# Altium integrated library Diodes - TVS.IntLib: 5379 symbols (part 26 of 122)
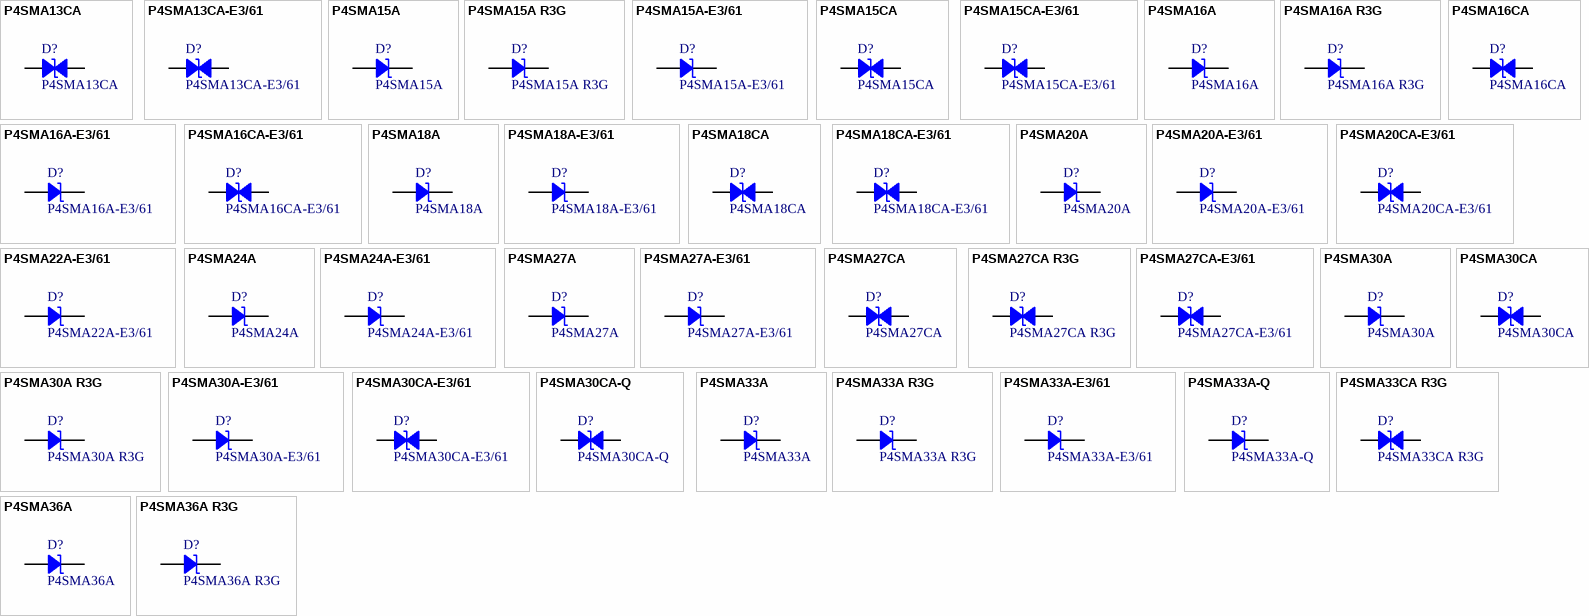
[diagram p159: symbols P4SMA13CA to P4SMA36A R3G]

## P4SMA27CA
designator D?
TVS DIODE 23.1V 37.5V DO214AC; Manufacturer: Littelfuse Inc.; Bidirectional Channels: 1; Current - Peak Pulse (10/1000µs): 10.9A; Power Line Protection: No; Power - Peak Pulse: 400W; Type: Zener; Voltage - Breakdown (Min): 25.7V; Part Number: P4SMA27CA; Applications: General Purpose; ComponentLink1Description: Datasheet; ComponentLink1URL: https://www.littelfuse.com/~/media/electronics/datasheets/tvs_diodes/littelfuse_tvs_diode_p4sma_datasheet.pdf.pdf; ComponentLink2Description: DigiKey Link; ComponentLink2URL: http://digikey.com/product-detail/en/littelfuse-inc/P4SMA27CA/P4SMA27CACT-ND/9841925; LastUpdated: 9/2/2020 1:27:51 AM; Lifecycle Status: Active; Minimum Order: 1; Mounting Type: Surface Mount; Operating Temperature: -65°C ~ 150°C (TJ); Package / Case: DO-214AC, SMA; Packaging: TapeAndReel; PartId: 7358; Part Status: Active; Price: 0.14; Series: P4SMA; Supplier 1: DigiKey; Supplier Part Number 1: P4SMA27CACT-ND; Supplier Device Package: DO-214AC (SMA); Voltage - Clamping (Max) @ Ipp: 37.5V; Voltage - Reverse Standoff (Typ): 23.1V
footprint DO214AC SMA
pins: 1, 2

## P4SMA27CA R3G
designator D?
TVS DIODE 23.1V 37.5V DO214AC; Manufacturer: Taiwan Semiconductor Corporation; Bidirectional Channels: 1; Current - Peak Pulse (10/1000µs): 11A; Power Line Protection: No; Power - Peak Pulse: 400W; Type: Zener; Voltage - Breakdown (Min): 25.65V; Part Number: P4SMA27CA R3G; Applications: General Purpose; ComponentLink1Description: Datasheet; ComponentLink1URL: https://www.taiwansemi.com/products/datasheet/P4SMA%20SERIES_Q1705.pdf; ComponentLink2Description: DigiKey Link; ComponentLink2URL: http://digikey.com/product-detail/en/taiwan-semiconductor-corporation/P4SMA27CA-R3G/P4SMA27CAR3GCT-ND/7357913; LastUpdated: 9/2/2020 1:27:50 AM; Lifecycle Status: Active; Minimum Order: 1; Mounting Type: Surface Mount; Operating Temperature: -55°C ~ 150°C (TJ); Package / Case: DO-214AC, SMA; Packaging: TapeAndReel; PartId: 7282; Part Status: Active; Price: 0.11; Series: P4SMA; Supplier 1: DigiKey; Supplier Part Number 1: P4SMA27CAR3GCT-ND; Supplier Device Package: DO-214AC (SMA); Voltage - Clamping (Max) @ Ipp: 37.5V; Voltage - Reverse Standoff (Typ): 23.1V
footprint DO214AC SMA
pins: 1, 2

## P4SMA27CA-E3/61
designator D?
TVS DIODE 23.1V 37.5V DO214AC; Manufacturer: Vishay Semiconductor Diodes Division; Bidirectional Channels: 1; Current - Peak Pulse (10/1000µs): 10.7A; Power Line Protection: No; Power - Peak Pulse: 400W; Type: Zener; Voltage - Breakdown (Min): 25.7V; Part Number: P4SMA27CA-E3/61; Applications: General Purpose; ComponentLink1Description: Datasheet; ComponentLink1URL: http://www.vishay.com/docs/88367/p4sma.pdf; ComponentLink2Description: DigiKey Link; ComponentLink2URL: http://digikey.com/product-detail/en/vishay-semiconductor-diodes-division/P4SMA27CA-E3-61/P4SMA27CA-E3-61GICT-ND/5639046; LastUpdated: 9/2/2020 1:27:53 AM; Lifecycle Status: Active; Minimum Order: 1; Mounting Type: Surface Mount; Operating Temperature: -65°C ~ 150°C (TJ); Package / Case: DO-214AC, SMA; Packaging: TapeAndReel; PartId: 7591; Part Status: Active; Price: 0.11; Series: P4SMA, TransZorb®; Supplier 1: DigiKey; Supplier Part Number 1: P4SMA27CA-E3/61GICT-ND; Supplier Device Package: DO-214AC (SMA); Voltage - Clamping (Max) @ Ipp: 37.5V; Voltage - Reverse Standoff (Typ): 23.1V
footprint DO214AC SMA
pins: 1, 2

## P4SMA30A
designator D?
TVS DIODE 25.6V 41.4V DO214AC; Manufacturer: Littelfuse Inc.; Current - Peak Pulse (10/1000µs): 9.9A; Power Line Protection: No; Power - Peak Pulse: 400W; Type: Zener; Unidirectional Channels: 1; Voltage - Breakdown (Min): 28.5V; Part Number: P4SMA30A; Applications: General Purpose; ComponentLink1Description: Datasheet; ComponentLink1URL: https://www.littelfuse.com/~/media/electronics/datasheets/tvs_diodes/littelfuse_tvs_diode_p4sma_datasheet.pdf.pdf; ComponentLink2Description: DigiKey Link; ComponentLink2URL: http://digikey.com/product-detail/en/littelfuse-inc/P4SMA30A/18-P4SMA30ACT-ND/10492197; LastUpdated: 9/2/2020 1:20:16 AM; Lifecycle Status: Active; Minimum Order: 1; Mounting Type: Surface Mount; Operating Temperature: -65°C ~ 150°C (TJ); Package / Case: DO-214AC, SMA; Packaging: TapeAndReel; PartId: 5905; Part Status: Active; Price: 0.13; Series: P4SMA; Supplier 1: DigiKey; Supplier Part Number 1: 18-P4SMA30ACT-ND; Supplier Device Package: DO-214AC (SMA); Voltage - Clamping (Max) @ Ipp: 41.4V; Voltage - Reverse Standoff (Typ): 25.6V
footprint DO214AC SMA
pins: 1, 2

## P4SMA30A R3G
designator D?
TVS DIODE 25.6V 41.4V DO214AC; Manufacturer: Taiwan Semiconductor Corporation; Current - Peak Pulse (10/1000µs): 10A; Power Line Protection: No; Power - Peak Pulse: 400W; Type: Zener; Unidirectional Channels: 1; Voltage - Breakdown (Min): 28.5V; Part Number: P4SMA30A R3G; Applications: General Purpose; ComponentLink1Description: Datasheet; ComponentLink1URL: https://www.taiwansemi.com/products/datasheet/P4SMA%20SERIES_Q1705.pdf; ComponentLink2Description: DigiKey Link; ComponentLink2URL: http://digikey.com/product-detail/en/taiwan-semiconductor-corporation/P4SMA30A-R3G/P4SMA30AR3GCT-ND/7357916; LastUpdated: 9/2/2020 1:20:16 AM; Lifecycle Status: Active; Minimum Order: 1; Mounting Type: Surface Mount; Operating Temperature: -55°C ~ 150°C (TJ); Package / Case: DO-214AC, SMA; Packaging: TapeAndReel; PartId: 5929; Part Status: Active; Price: 0.11; Series: P4SMA; Supplier 1: DigiKey; Supplier Part Number 1: P4SMA30AR3GCT-ND; Supplier Device Package: DO-214AC (SMA); Voltage - Clamping (Max) @ Ipp: 41.4V; Voltage - Reverse Standoff (Typ): 25.6V
footprint DO214AC SMA
pins: 1, 2

## P4SMA30A-E3/61
designator D?
TVS DIODE 25.6V 41.4V DO214AC; Manufacturer: Vishay Semiconductor Diodes Division; Current - Peak Pulse (10/1000µs): 9.7A; Power Line Protection: No; Power - Peak Pulse: 400W; Type: Zener; Unidirectional Channels: 1; Voltage - Breakdown (Min): 28.5V; Part Number: P4SMA30A-E3/61; Applications: General Purpose; ComponentLink1Description: Datasheet; ComponentLink1URL: http://www.vishay.com/docs/88367/p4sma.pdf; ComponentLink2Description: DigiKey Link; ComponentLink2URL: http://digikey.com/product-detail/en/vishay-semiconductor-diodes-division/P4SMA30A-E3-61/P4SMA30A-E3-61GICT-ND/5639048; LastUpdated: 9/2/2020 1:20:13 AM; Lifecycle Status: Active; Minimum Order: 1; Mounting Type: Surface Mount; Operating Temperature: -65°C ~ 150°C (TJ); Package / Case: DO-214AC, SMA; Packaging: TapeAndReel; PartId: 5597; Part Status: Active; Price: 0.10; Series: P4SMA, TransZorb®; Supplier 1: DigiKey; Supplier Part Number 1: P4SMA30A-E3/61GICT-ND; Supplier Device Package: DO-214AC (SMA); Voltage - Clamping (Max) @ Ipp: 41.4V; Voltage - Reverse Standoff (Typ): 25.6V
footprint DO214AC SMA
pins: 1, 2

## P4SMA30CA
designator D?
TVS DIODE 25.6V 41.4V DO214AC; Manufacturer: Bourns Inc.; Bidirectional Channels: 1; Current - Peak Pulse (10/1000µs): 9.9A; Power Line Protection: No; Power - Peak Pulse: 400W; Type: Zener; Voltage - Breakdown (Min): 28.5V; Part Number: P4SMA30CA; Applications: General Purpose; ComponentLink1Description: Datasheet; ComponentLink1URL: https://www.bourns.com/docs/Product-Datasheets/P4SMA.pdf; ComponentLink2Description: DigiKey Link; ComponentLink2URL: http://digikey.com/product-detail/en/bourns-inc/P4SMA30CA/118-P4SMA30CACT-ND/10668346; LastUpdated: 9/2/2020 1:27:51 AM; Lifecycle Status: Active; Minimum Order: 1; Mounting Type: Surface Mount; Operating Temperature: -55°C ~ 150°C (TJ); Package / Case: DO-214AC, SMA; Packaging: TapeAndReel; PartId: 7333; Part Status: Active; Price: 0.09; Series: -; Supplier 1: DigiKey; Supplier Part Number 1: 118-P4SMA30CACT-ND; Supplier Device Package: DO-214AC (SMA); Voltage - Clamping (Max) @ Ipp: 41.4V; Voltage - Reverse Standoff (Typ): 25.6V
footprint DO214AC SMA
pins: 1, 2

## P4SMA30CA-E3/61
designator D?
TVS DIODE 25.6V 41.4V DO214AC; Manufacturer: Vishay Semiconductor Diodes Division; Bidirectional Channels: 1; Current - Peak Pulse (10/1000µs): 9.7A; Power Line Protection: No; Power - Peak Pulse: 400W; Type: Zener; Voltage - Breakdown (Min): 28.5V; Part Number: P4SMA30CA-E3/61; Applications: General Purpose; ComponentLink1Description: Datasheet; ComponentLink1URL: http://www.vishay.com/docs/88367/p4sma.pdf; ComponentLink2Description: DigiKey Link; ComponentLink2URL: http://digikey.com/product-detail/en/vishay-semiconductor-diodes-division/P4SMA30CA-E3-61/P4SMA30CA-E3-61GICT-ND/3847608; LastUpdated: 9/2/2020 1:27:50 AM; Lifecycle Status: Active; Minimum Order: 1; Mounting Type: Surface Mount; Operating Temperature: -65°C ~ 150°C (TJ); Package / Case: DO-214AC, SMA; Packaging: TapeAndReel; PartId: 7292; Part Status: Active; Price: 0.10; Series: P4SMA, TransZorb®; Supplier 1: DigiKey; Supplier Part Number 1: P4SMA30CA-E3/61GICT-ND; Supplier Device Package: DO-214AC (SMA); Voltage - Clamping (Max) @ Ipp: 41.4V; Voltage - Reverse Standoff (Typ): 25.6V
footprint DO214AC SMA
pins: 1, 2

## P4SMA30CA-Q
designator D?
TVS DIODE; Manufacturer: Bourns Inc.; Bidirectional Channels: 1; Current - Peak Pulse (10/1000µs): 9.9A; Power Line Protection: No; Power - Peak Pulse: 400W; Type: Zener; Voltage - Breakdown (Min): 28.5V; Voltage - Clamping (Max) @ Ipp: 41.4V; Voltage - Reverse Standoff (Typ): 25.6V; Part Number: P4SMA30CA-Q; Applications: Automotive, Telecom; ComponentLink1Description: Datasheet; ComponentLink1URL: https://www.bourns.com/docs/Product-Datasheets/P4SMA-Q.pdf; ComponentLink2Description: DigiKey Link; ComponentLink2URL: http://digikey.com/product-detail/en/bourns-inc/P4SMA30CA-Q/118-P4SMA30CA-QCT-ND/10297104; LastUpdated: 9/2/2020 1:27:53 AM; Lifecycle Status: Active; Minimum Order: 1; Mounting Type: Surface Mount; Operating Temperature: -55°C ~ 150°C (TJ); Package / Case: DO-214AC, SMA; Packaging: TapeAndReel; PartId: 7609; Part Status: Active; Price: 0.11; Series: Automotive, AEC-Q101, P4SMA; Supplier 1: DigiKey; Supplier Part Number 1: 118-P4SMA30CA-QCT-ND; Supplier Device Package: DO-214AC (SMA)
footprint DO214AC SMA
pins: 1, 2

## P4SMA33A
designator D?
TVS DIODE 28.2V 45.7V DO214AC; Manufacturer: Bourns Inc.; Current - Peak Pulse (10/1000µs): 9A; Power Line Protection: No; Power - Peak Pulse: 400W; Type: Zener; Unidirectional Channels: 1; Voltage - Breakdown (Min): 31.4V; Part Number: P4SMA33A; Applications: General Purpose; ComponentLink1Description: Datasheet; ComponentLink1URL: https://www.bourns.com/docs/Product-Datasheets/P4SMA.pdf; ComponentLink2Description: DigiKey Link; ComponentLink2URL: http://digikey.com/product-detail/en/bourns-inc/P4SMA33A/P4SMA33ABBCT-ND/6708212; LastUpdated: 9/2/2020 1:20:15 AM; Lifecycle Status: Active; Minimum Order: 1; Mounting Type: Surface Mount; Operating Temperature: -55°C ~ 150°C (TJ); Package / Case: DO-214AC, SMA; Packaging: TapeAndReel; PartId: 5828; Part Status: Active; Price: 0.09; Series: -; Supplier 1: DigiKey; Supplier Part Number 1: P4SMA33ABBCT-ND; Supplier Device Package: DO-214AC (SMA); Voltage - Clamping (Max) @ Ipp: 45.7V; Voltage - Reverse Standoff (Typ): 28.2V
footprint DO214AC SMA
pins: 1, 2

## P4SMA33A R3G
designator D?
TVS DIODE 28.2V 45.7V DO214AC; Manufacturer: Taiwan Semiconductor Corporation; Current - Peak Pulse (10/1000µs): 9A; Power Line Protection: No; Power - Peak Pulse: 400W; Type: Zener; Unidirectional Channels: 1; Voltage - Breakdown (Min): 31.35V; Part Number: P4SMA33A R3G; Applications: General Purpose; ComponentLink1Description: Datasheet; ComponentLink1URL: https://www.taiwansemi.com/products/datasheet/P4SMA%20SERIES_Q1705.pdf; ComponentLink2Description: DigiKey Link; ComponentLink2URL: http://digikey.com/product-detail/en/taiwan-semiconductor-corporation/P4SMA33A-R3G/P4SMA33AR3GCT-ND/7357919; LastUpdated: 9/2/2020 1:20:17 AM; Lifecycle Status: Active; Minimum Order: 1; Mounting Type: Surface Mount; Operating Temperature: -55°C ~ 150°C (TJ); Package / Case: DO-214AC, SMA; Packaging: TapeAndReel; PartId: 6093; Part Status: Active; Price: 0.11; Series: P4SMA; Supplier 1: DigiKey; Supplier Part Number 1: P4SMA33AR3GCT-ND; Supplier Device Package: DO-214AC (SMA); Voltage - Clamping (Max) @ Ipp: 45.7V; Voltage - Reverse Standoff (Typ): 28.2V
footprint DO214AC SMA
pins: 1, 2

## P4SMA33A-E3/61
designator D?
TVS DIODE 28.2V 45.7V DO214AC; Manufacturer: Vishay Semiconductor Diodes Division; Current - Peak Pulse (10/1000µs): 8.8A; Power Line Protection: No; Power - Peak Pulse: 400W; Type: Zener; Unidirectional Channels: 1; Voltage - Breakdown (Min): 31.4V; Part Number: P4SMA33A-E3/61; Applications: General Purpose; ComponentLink1Description: Datasheet; ComponentLink1URL: http://www.vishay.com/docs/88367/p4sma.pdf; ComponentLink2Description: DigiKey Link; ComponentLink2URL: http://digikey.com/product-detail/en/vishay-semiconductor-diodes-division/P4SMA33A-E3-61/P4SMA33A-E3-61GICT-ND/5639049; LastUpdated: 9/2/2020 1:20:16 AM; Lifecycle Status: Active; Minimum Order: 1; Mounting Type: Surface Mount; Operating Temperature: -65°C ~ 150°C (TJ); Package / Case: DO-214AC, SMA; Packaging: TapeAndReel; PartId: 5934; Part Status: Active; Price: 0.10; Series: P4SMA, TransZorb®; Supplier 1: DigiKey; Supplier Part Number 1: P4SMA33A-E3/61GICT-ND; Supplier Device Package: DO-214AC (SMA); Voltage - Clamping (Max) @ Ipp: 45.7V; Voltage - Reverse Standoff (Typ): 28.2V
footprint DO214AC SMA
pins: 1, 2

## P4SMA33A-Q
designator D?
TVS DIODE; Manufacturer: Bourns Inc.; Current - Peak Pulse (10/1000µs): 9A; Power Line Protection: No; Power - Peak Pulse: 400W; Type: Zener; Unidirectional Channels: 1; Voltage - Breakdown (Min): 31.4V; Voltage - Clamping (Max) @ Ipp: 45.7V; Voltage - Reverse Standoff (Typ): 28.2V; Part Number: P4SMA33A-Q; Applications: Automotive, Telecom; ComponentLink1Description: Datasheet; ComponentLink1URL: https://www.bourns.com/docs/Product-Datasheets/P4SMA-Q.pdf; ComponentLink2Description: DigiKey Link; ComponentLink2URL: http://digikey.com/product-detail/en/bourns-inc/P4SMA33A-Q/118-P4SMA33A-QCT-ND/10297103; LastUpdated: 9/2/2020 1:20:13 AM; Lifecycle Status: Active; Minimum Order: 1; Mounting Type: Surface Mount; Operating Temperature: -55°C ~ 150°C (TJ); Package / Case: DO-214AC, SMA; Packaging: TapeAndReel; PartId: 5632; Part Status: Active; Price: 0.10; Series: Automotive, AEC-Q101, P4SMA; Supplier 1: DigiKey; Supplier Part Number 1: 118-P4SMA33A-QCT-ND; Supplier Device Package: DO-214AC (SMA)
footprint DO214AC SMA
pins: 1, 2

## P4SMA33CA R3G
designator D?
TVS DIODE 28.2V 45.7V DO214AC; Manufacturer: Taiwan Semiconductor Corporation; Bidirectional Channels: 1; Current - Peak Pulse (10/1000µs): 9A; Power Line Protection: No; Power - Peak Pulse: 400W; Type: Zener; Voltage - Breakdown (Min): 31.35V; Part Number: P4SMA33CA R3G; Applications: General Purpose; ComponentLink1Description: Datasheet; ComponentLink1URL: https://www.taiwansemi.com/products/datasheet/P4SMA%20SERIES_Q1705.pdf; ComponentLink2Description: DigiKey Link; ComponentLink2URL: http://digikey.com/product-detail/en/taiwan-semiconductor-corporation/P4SMA33CA-R3G/P4SMA33CAR3GCT-ND/7357922; LastUpdated: 9/2/2020 1:27:53 AM; Lifecycle Status: Active; Minimum Order: 1; Mounting Type: Surface Mount; Operating Temperature: -55°C ~ 150°C (TJ); Package / Case: DO-214AC, SMA; Packaging: TapeAndReel; PartId: 7581; Part Status: Active; Price: 0.11; Series: P4SMA; Supplier 1: DigiKey; Supplier Part Number 1: P4SMA33CAR3GCT-ND; Supplier Device Package: DO-214AC (SMA); Voltage - Clamping (Max) @ Ipp: 45.7V; Voltage - Reverse Standoff (Typ): 28.2V
footprint DO214AC SMA
pins: 1, 2

## P4SMA36A
designator D?
TVS DIODE 30.8V 49.9V DO214AC; Manufacturer: Bourns Inc.; Current - Peak Pulse (10/1000µs): 8.2A; Power Line Protection: No; Power - Peak Pulse: 400W; Type: Zener; Unidirectional Channels: 1; Voltage - Breakdown (Min): 34.2V; Part Number: P4SMA36A; Applications: General Purpose; ComponentLink1Description: Datasheet; ComponentLink1URL: https://www.bourns.com/docs/Product-Datasheets/P4SMA.pdf; ComponentLink2Description: DigiKey Link; ComponentLink2URL: http://digikey.com/product-detail/en/bourns-inc/P4SMA36A/P4SMA36ABBCT-ND/6708214; LastUpdated: 9/2/2020 1:20:14 AM; Lifecycle Status: Active; Minimum Order: 1; Mounting Type: Surface Mount; Operating Temperature: -55°C ~ 150°C (TJ); Package / Case: DO-214AC, SMA; Packaging: TapeAndReel; PartId: 5663; Part Status: Active; Price: 0.09; Series: -; Supplier 1: DigiKey; Supplier Part Number 1: P4SMA36ABBCT-ND; Supplier Device Package: DO-214AC (SMA); Voltage - Clamping (Max) @ Ipp: 49.9V; Voltage - Reverse Standoff (Typ): 30.8V
footprint DO214AC SMA
pins: 1, 2

## P4SMA36A R3G
designator D?
TVS DIODE 30.8V 49.9V DO214AC; Manufacturer: Taiwan Semiconductor Corporation; Current - Peak Pulse (10/1000µs): 8.4A; Power Line Protection: No; Power - Peak Pulse: 400W; Type: Zener; Unidirectional Channels: 1; Voltage - Breakdown (Min): 34.2V; Part Number: P4SMA36A R3G; Applications: General Purpose; ComponentLink1Description: Datasheet; ComponentLink1URL: https://www.taiwansemi.com/products/datasheet/P4SMA%20SERIES_Q1705.pdf; ComponentLink2Description: DigiKey Link; ComponentLink2URL: http://digikey.com/product-detail/en/taiwan-semiconductor-corporation/P4SMA36A-R3G/P4SMA36AR3GCT-ND/7357925; LastUpdated: 9/2/2020 1:20:13 AM; Lifecycle Status: Active; Minimum Order: 1; Mounting Type: Surface Mount; Operating Temperature: -55°C ~ 150°C (TJ); Package / Case: DO-214AC, SMA; Packaging: TapeAndReel; PartId: 5587; Part Status: Active; Price: 0.11; Series: P4SMA; Supplier 1: DigiKey; Supplier Part Number 1: P4SMA36AR3GCT-ND; Supplier Device Package: DO-214AC (SMA); Voltage - Clamping (Max) @ Ipp: 49.9V; Voltage - Reverse Standoff (Typ): 30.8V
footprint DO214AC SMA
pins: 1, 2

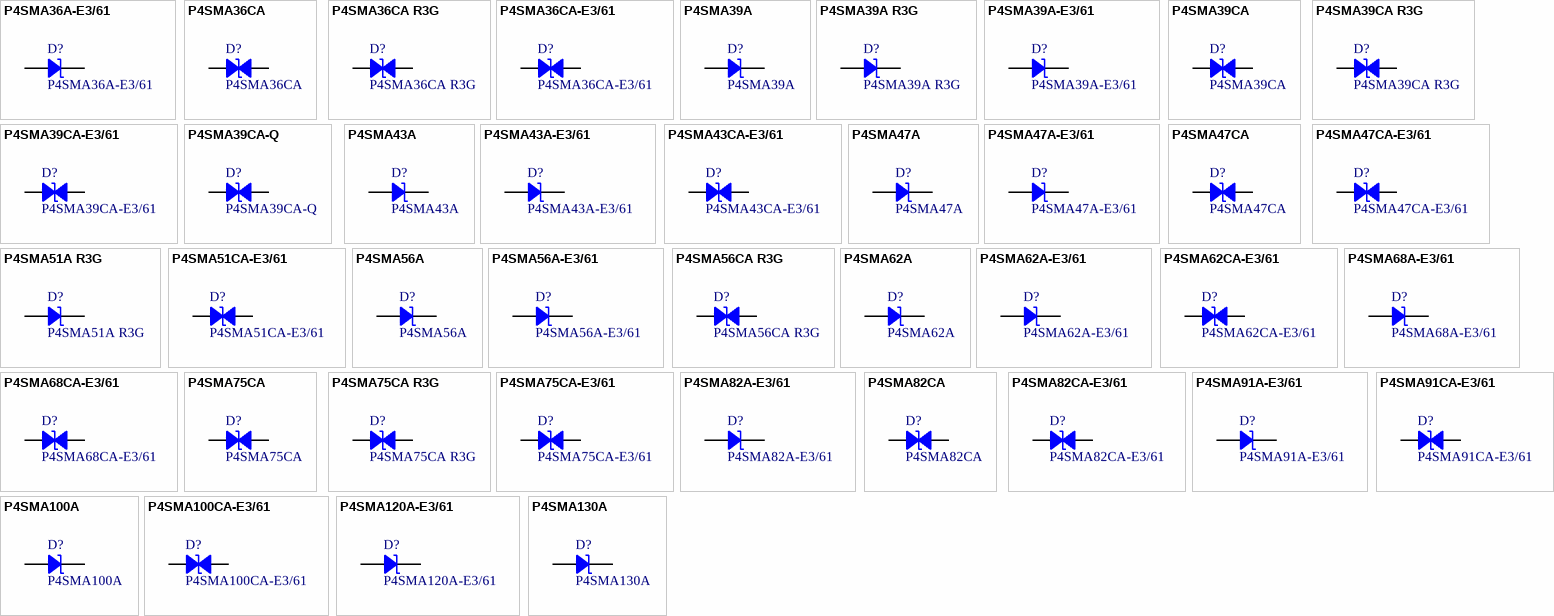
[diagram p28: symbols P4SMA36A-E3/61 to P4SMA130A]

## P4SMA36A-E3/61
designator D?
TVS DIODE 30.8V 49.9V DO214AC; Manufacturer: Vishay Semiconductor Diodes Division; Current - Peak Pulse (10/1000µs): 8A; Power Line Protection: No; Power - Peak Pulse: 400W; Type: Zener; Unidirectional Channels: 1; Voltage - Breakdown (Min): 34.2V; Part Number: P4SMA36A-E3/61; Applications: General Purpose; ComponentLink1Description: Datasheet; ComponentLink1URL: http://www.vishay.com/docs/88367/p4sma.pdf; ComponentLink2Description: DigiKey Link; ComponentLink2URL: http://digikey.com/product-detail/en/vishay-semiconductor-diodes-division/P4SMA36A-E3-61/P4SMA36A-E3-61GICT-ND/5639051; LastUpdated: 9/2/2020 1:20:13 AM; Lifecycle Status: Active; Minimum Order: 1; Mounting Type: Surface Mount; Operating Temperature: -65°C ~ 150°C (TJ); Package / Case: DO-214AC, SMA; Packaging: TapeAndReel; PartId: 5589; Part Status: Active; Price: 0.10; Series: P4SMA, TransZorb®; Supplier 1: DigiKey; Supplier Part Number 1: P4SMA36A-E3/61GICT-ND; Supplier Device Package: DO-214AC (SMA); Voltage - Clamping (Max) @ Ipp: 49.9V; Voltage - Reverse Standoff (Typ): 30.8V
footprint DO214AC SMA
pins: 1, 2

## P4SMA36CA
designator D?
TVS DIODE 30.8V 49.9V DO214AC; Manufacturer: Littelfuse Inc.; Bidirectional Channels: 1; Current - Peak Pulse (10/1000µs): 8.2A; Power Line Protection: No; Power - Peak Pulse: 400W; Type: Zener; Voltage - Breakdown (Min): 34.2V; Part Number: P4SMA36CA; Applications: General Purpose; ComponentLink1Description: Datasheet; ComponentLink1URL: https://www.littelfuse.com/~/media/electronics/datasheets/tvs_diodes/littelfuse_tvs_diode_p4sma_datasheet.pdf.pdf; ComponentLink2Description: DigiKey Link; ComponentLink2URL: http://digikey.com/product-detail/en/littelfuse-inc/P4SMA36CA/P4SMA36CACT-ND/9841926; LastUpdated: 9/2/2020 1:27:51 AM; Lifecycle Status: Active; Minimum Order: 1; Mounting Type: Surface Mount; Operating Temperature: -65°C ~ 150°C (TJ); Package / Case: DO-214AC, SMA; Packaging: TapeAndReel; PartId: 7359; Part Status: Active; Price: 0.14; Series: P4SMA; Supplier 1: DigiKey; Supplier Part Number 1: P4SMA36CACT-ND; Supplier Device Package: DO-214AC (SMA); Voltage - Clamping (Max) @ Ipp: 49.9V; Voltage - Reverse Standoff (Typ): 30.8V
footprint DO214AC SMA
pins: 1, 2

## P4SMA36CA R3G
designator D?
TVS DIODE 30.8V 49.9V DO214AC; Manufacturer: Taiwan Semiconductor Corporation; Bidirectional Channels: 1; Current - Peak Pulse (10/1000µs): 8.4A; Power Line Protection: No; Power - Peak Pulse: 400W; Type: Zener; Voltage - Breakdown (Min): 34.2V; Part Number: P4SMA36CA R3G; Applications: General Purpose; ComponentLink1Description: Datasheet; ComponentLink1URL: https://www.taiwansemi.com/products/datasheet/P4SMA%20SERIES_Q1705.pdf; ComponentLink2Description: DigiKey Link; ComponentLink2URL: http://digikey.com/product-detail/en/taiwan-semiconductor-corporation/P4SMA36CA-R3G/P4SMA36CAR3GCT-ND/7357928; LastUpdated: 9/2/2020 1:27:50 AM; Lifecycle Status: Active; Minimum Order: 1; Mounting Type: Surface Mount; Operating Temperature: -55°C ~ 150°C (TJ); Package / Case: DO-214AC, SMA; Packaging: TapeAndReel; PartId: 7281; Part Status: Active; Price: 0.11; Series: P4SMA; Supplier 1: DigiKey; Supplier Part Number 1: P4SMA36CAR3GCT-ND; Supplier Device Package: DO-214AC (SMA); Voltage - Clamping (Max) @ Ipp: 49.9V; Voltage - Reverse Standoff (Typ): 30.8V
footprint DO214AC SMA
pins: 1, 2

## P4SMA36CA-E3/61
designator D?
TVS DIODE 30.8V 49.9V DO214AC; Manufacturer: Vishay Semiconductor Diodes Division; Bidirectional Channels: 1; Current - Peak Pulse (10/1000µs): 8A; Power Line Protection: No; Power - Peak Pulse: 400W; Type: Zener; Voltage - Breakdown (Min): 34.2V; Part Number: P4SMA36CA-E3/61; Applications: General Purpose; ComponentLink1Description: Datasheet; ComponentLink1URL: http://www.vishay.com/docs/88367/p4sma.pdf; ComponentLink2Description: DigiKey Link; ComponentLink2URL: http://digikey.com/product-detail/en/vishay-semiconductor-diodes-division/P4SMA36CA-E3-61/P4SMA36CA-E3-61GICT-ND/5639052; LastUpdated: 9/2/2020 1:27:50 AM; Lifecycle Status: Active; Minimum Order: 1; Mounting Type: Surface Mount; Operating Temperature: -65°C ~ 150°C (TJ); Package / Case: DO-214AC, SMA; Packaging: TapeAndReel; PartId: 7290; Part Status: Active; Price: 0.11; Series: P4SMA, TransZorb®; Supplier 1: DigiKey; Supplier Part Number 1: P4SMA36CA-E3/61GICT-ND; Supplier Device Package: DO-214AC (SMA); Voltage - Clamping (Max) @ Ipp: 49.9V; Voltage - Reverse Standoff (Typ): 30.8V
footprint DO214AC SMA
pins: 1, 2

## P4SMA39A
designator D?
TVS DIODE 33.3V 53.9V DO214AC; Manufacturer: Bourns Inc.; Current - Peak Pulse (10/1000µs): 7.6A; Power Line Protection: No; Power - Peak Pulse: 400W; Type: Zener; Unidirectional Channels: 1; Voltage - Breakdown (Min): 37.1V; Part Number: P4SMA39A; Applications: General Purpose; ComponentLink1Description: Datasheet; ComponentLink1URL: https://www.bourns.com/docs/Product-Datasheets/P4SMA.pdf; ComponentLink2Description: DigiKey Link; ComponentLink2URL: http://digikey.com/product-detail/en/bourns-inc/P4SMA39A/P4SMA39ABBCT-ND/6708215; LastUpdated: 9/2/2020 1:20:18 AM; Lifecycle Status: Active; Minimum Order: 1; Mounting Type: Surface Mount; Operating Temperature: -55°C ~ 150°C (TJ); Package / Case: DO-214AC, SMA; Packaging: TapeAndReel; PartId: 6142; Part Status: Active; Price: 0.09; Series: -; Supplier 1: DigiKey; Supplier Part Number 1: P4SMA39ABBCT-ND; Supplier Device Package: DO-214AC (SMA); Voltage - Clamping (Max) @ Ipp: 53.9V; Voltage - Reverse Standoff (Typ): 33.3V
footprint DO214AC SMA
pins: 1, 2

## P4SMA39A R3G
designator D?
TVS DIODE 33.3V 53.9V DO214AC; Manufacturer: Taiwan Semiconductor Corporation; Current - Peak Pulse (10/1000µs): 7.7A; Power Line Protection: No; Power - Peak Pulse: 400W; Type: Zener; Unidirectional Channels: 1; Voltage - Breakdown (Min): 37.05V; Part Number: P4SMA39A R3G; Applications: General Purpose; ComponentLink1Description: Datasheet; ComponentLink1URL: https://www.taiwansemi.com/products/datasheet/P4SMA%20SERIES_Q1705.pdf; ComponentLink2Description: DigiKey Link; ComponentLink2URL: http://digikey.com/product-detail/en/taiwan-semiconductor-corporation/P4SMA39A-R3G/P4SMA39AR3GCT-ND/7357931; LastUpdated: 9/2/2020 1:20:16 AM; Lifecycle Status: Active; Minimum Order: 1; Mounting Type: Surface Mount; Operating Temperature: -55°C ~ 150°C (TJ); Package / Case: DO-214AC, SMA; Packaging: TapeAndReel; PartId: 5932; Part Status: Active; Price: 0.11; Series: P4SMA; Supplier 1: DigiKey; Supplier Part Number 1: P4SMA39AR3GCT-ND; Supplier Device Package: DO-214AC (SMA); Voltage - Clamping (Max) @ Ipp: 53.9V; Voltage - Reverse Standoff (Typ): 33.3V
footprint DO214AC SMA
pins: 1, 2

## P4SMA39A-E3/61
designator D?
TVS DIODE 33.3V 53.9V DO214AC; Manufacturer: Vishay Semiconductor Diodes Division; Current - Peak Pulse (10/1000µs): 7.4A; Power Line Protection: No; Power - Peak Pulse: 400W; Type: Zener; Unidirectional Channels: 1; Voltage - Breakdown (Min): 37.1V; Part Number: P4SMA39A-E3/61; Applications: General Purpose; ComponentLink1Description: Datasheet; ComponentLink1URL: http://www.vishay.com/docs/88367/p4sma.pdf; ComponentLink2Description: DigiKey Link; ComponentLink2URL: http://digikey.com/product-detail/en/vishay-semiconductor-diodes-division/P4SMA39A-E3-61/P4SMA39A-E3-61GICT-ND/5639053; LastUpdated: 9/2/2020 1:20:14 AM; Lifecycle Status: Active; Minimum Order: 1; Mounting Type: Surface Mount; Operating Temperature: -65°C ~ 150°C (TJ); Package / Case: DO-214AC, SMA; Packaging: TapeAndReel; PartId: 5681; Part Status: Active; Price: 0.10; Series: P4SMA, TransZorb®; Supplier 1: DigiKey; Supplier Part Number 1: P4SMA39A-E3/61GICT-ND; Supplier Device Package: DO-214AC (SMA); Voltage - Clamping (Max) @ Ipp: 53.9V; Voltage - Reverse Standoff (Typ): 33.3V
footprint DO214AC SMA
pins: 1, 2

## P4SMA39CA
designator D?
TVS DIODE 33.3V 53.9V DO214AC; Manufacturer: Littelfuse Inc.; Bidirectional Channels: 1; Current - Peak Pulse (10/1000µs): 7.6A; Power Line Protection: No; Power - Peak Pulse: 400W; Type: Zener; Voltage - Breakdown (Min): 37.1V; Part Number: P4SMA39CA; Applications: General Purpose; ComponentLink1Description: Datasheet; ComponentLink1URL: https://www.littelfuse.com/~/media/electronics/datasheets/tvs_diodes/littelfuse_tvs_diode_p4sma_datasheet.pdf.pdf; ComponentLink2Description: DigiKey Link; ComponentLink2URL: http://digikey.com/product-detail/en/littelfuse-inc/P4SMA39CA/F5655CT-ND/3307037; LastUpdated: 9/2/2020 1:27:52 AM; Lifecycle Status: Active; Minimum Order: 1; Mounting Type: Surface Mount; Operating Temperature: -65°C ~ 150°C (TJ); Package / Case: DO-214AC, SMA; Packaging: TapeAndReel; PartId: 7485; Part Status: Active; Price: 0.14; Series: P4SMA; Supplier 1: DigiKey; Supplier Part Number 1: F5655CT-ND; Supplier Device Package: DO-214AC (SMA); Voltage - Clamping (Max) @ Ipp: 53.9V; Voltage - Reverse Standoff (Typ): 33.3V
footprint DO214AC SMA
pins: 1, 2

## P4SMA39CA R3G
designator D?
TVS DIODE 33.3V 53.9V DO214AC; Manufacturer: Taiwan Semiconductor Corporation; Bidirectional Channels: 1; Current - Peak Pulse (10/1000µs): 7.7A; Power Line Protection: No; Power - Peak Pulse: 400W; Type: Zener; Voltage - Breakdown (Min): 37.05V; Part Number: P4SMA39CA R3G; Applications: General Purpose; ComponentLink1Description: Datasheet; ComponentLink1URL: https://www.taiwansemi.com/products/datasheet/P4SMA%20SERIES_Q1705.pdf; ComponentLink2Description: DigiKey Link; ComponentLink2URL: http://digikey.com/product-detail/en/taiwan-semiconductor-corporation/P4SMA39CA-R3G/P4SMA39CAR3GCT-ND/7357934; LastUpdated: 9/2/2020 1:27:53 AM; Lifecycle Status: Active; Minimum Order: 1; Mounting Type: Surface Mount; Operating Temperature: -55°C ~ 150°C (TJ); Package / Case: DO-214AC, SMA; Packaging: TapeAndReel; PartId: 7580; Part Status: Active; Price: 0.11; Series: P4SMA; Supplier 1: DigiKey; Supplier Part Number 1: P4SMA39CAR3GCT-ND; Supplier Device Package: DO-214AC (SMA); Voltage - Clamping (Max) @ Ipp: 53.9V; Voltage - Reverse Standoff (Typ): 33.3V
footprint DO214AC SMA
pins: 1, 2

## P4SMA39CA-E3/61
designator D?
TVS DIODE 33.3V 53.9V DO214AC; Manufacturer: Vishay Semiconductor Diodes Division; Bidirectional Channels: 1; Current - Peak Pulse (10/1000µs): 7.4A; Power Line Protection: No; Power - Peak Pulse: 400W; Type: Zener; Voltage - Breakdown (Min): 37.1V; Part Number: P4SMA39CA-E3/61; Applications: General Purpose; ComponentLink1Description: Datasheet; ComponentLink1URL: http://www.vishay.com/docs/88367/p4sma.pdf; ComponentLink2Description: DigiKey Link; ComponentLink2URL: http://digikey.com/product-detail/en/vishay-semiconductor-diodes-division/P4SMA39CA-E3-61/P4SMA39CA-E3-61GICT-ND/5639054; LastUpdated: 9/2/2020 1:27:50 AM; Lifecycle Status: Active; Minimum Order: 1; Mounting Type: Surface Mount; Operating Temperature: -65°C ~ 150°C (TJ); Package / Case: DO-214AC, SMA; Packaging: TapeAndReel; PartId: 7288; Part Status: Active; Price: 0.11; Series: P4SMA, TransZorb®; Supplier 1: DigiKey; Supplier Part Number 1: P4SMA39CA-E3/61GICT-ND; Supplier Device Package: DO-214AC (SMA); Voltage - Clamping (Max) @ Ipp: 53.9V; Voltage - Reverse Standoff (Typ): 33.3V
footprint DO214AC SMA
pins: 1, 2

## P4SMA39CA-Q
designator D?
TVS DIODE; Manufacturer: Bourns Inc.; Bidirectional Channels: 1; Current - Peak Pulse (10/1000µs): 7.6A; Power Line Protection: No; Power - Peak Pulse: 400W; Type: Zener; Voltage - Breakdown (Min): 37.1V; Voltage - Clamping (Max) @ Ipp: 53.9V; Voltage - Reverse Standoff (Typ): 33.3V; Part Number: P4SMA39CA-Q; Applications: Automotive, Telecom; ComponentLink1Description: Datasheet; ComponentLink1URL: https://www.bourns.com/docs/Product-Datasheets/P4SMA-Q.pdf; ComponentLink2Description: DigiKey Link; ComponentLink2URL: http://digikey.com/product-detail/en/bourns-inc/P4SMA39CA-Q/118-P4SMA39CA-QCT-ND/10297101; LastUpdated: 9/2/2020 1:27:53 AM; Lifecycle Status: Active; Minimum Order: 1; Mounting Type: Surface Mount; Operating Temperature: -55°C ~ 150°C (TJ); Package / Case: DO-214AC, SMA; Packaging: TapeAndReel; PartId: 7610; Part Status: Active; Price: 0.11; Series: Automotive, AEC-Q101, P4SMA; Supplier 1: DigiKey; Supplier Part Number 1: 118-P4SMA39CA-QCT-ND; Supplier Device Package: DO-214AC (SMA)
footprint DO214AC SMA
pins: 1, 2

## P4SMA43A
designator D?
TVS DIODE 36.8V 59.3V DO214AC; Manufacturer: Bourns Inc.; Current - Peak Pulse (10/1000µs): 6.9A; Power Line Protection: No; Power - Peak Pulse: 400W; Type: Zener; Unidirectional Channels: 1; Voltage - Breakdown (Min): 40.9V; Part Number: P4SMA43A; Applications: General Purpose; ComponentLink1Description: Datasheet; ComponentLink1URL: https://www.bourns.com/docs/Product-Datasheets/P4SMA.pdf; ComponentLink2Description: DigiKey Link; ComponentLink2URL: http://digikey.com/product-detail/en/bourns-inc/P4SMA43A/P4SMA43ABBCT-ND/6708218; LastUpdated: 9/2/2020 1:20:18 AM; Lifecycle Status: Active; Minimum Order: 1; Mounting Type: Surface Mount; Operating Temperature: -55°C ~ 150°C (TJ); Package / Case: DO-214AC, SMA; Packaging: TapeAndReel; PartId: 6141; Part Status: Active; Price: 0.09; Series: -; Supplier 1: DigiKey; Supplier Part Number 1: P4SMA43ABBCT-ND; Supplier Device Package: DO-214AC (SMA); Voltage - Clamping (Max) @ Ipp: 59.3V; Voltage - Reverse Standoff (Typ): 36.8V
footprint DO214AC SMA
pins: 1, 2

## P4SMA43A-E3/61
designator D?
TVS DIODE 36.8V 59.3V DO214AC; Manufacturer: Vishay Semiconductor Diodes Division; Current - Peak Pulse (10/1000µs): 6.7A; Power Line Protection: No; Power - Peak Pulse: 400W; Type: Zener; Unidirectional Channels: 1; Voltage - Breakdown (Min): 40.9V; Part Number: P4SMA43A-E3/61; Applications: General Purpose; ComponentLink1Description: Datasheet; ComponentLink1URL: http://www.vishay.com/docs/88367/p4sma.pdf; ComponentLink2Description: DigiKey Link; ComponentLink2URL: http://digikey.com/product-detail/en/vishay-semiconductor-diodes-division/P4SMA43A-E3-61/P4SMA43A-E3-61GICT-ND/5639055; LastUpdated: 9/2/2020 1:20:18 AM; Lifecycle Status: Active; Minimum Order: 1; Mounting Type: Surface Mount; Operating Temperature: -65°C ~ 150°C (TJ); Package / Case: DO-214AC, SMA; Packaging: TapeAndReel; PartId: 6204; Part Status: Active; Price: 0.10; Series: P4SMA, TransZorb®; Supplier 1: DigiKey; Supplier Part Number 1: P4SMA43A-E3/61GICT-ND; Supplier Device Package: DO-214AC (SMA); Voltage - Clamping (Max) @ Ipp: 59.3V; Voltage - Reverse Standoff (Typ): 36.8V
footprint DO214AC SMA
pins: 1, 2

## P4SMA43CA-E3/61
designator D?
TVS DIODE 36.8V 59.3V DO214AC; Manufacturer: Vishay Semiconductor Diodes Division; Bidirectional Channels: 1; Current - Peak Pulse (10/1000µs): 6.7A; Power Line Protection: No; Power - Peak Pulse: 400W; Type: Zener; Voltage - Breakdown (Min): 40.9V; Part Number: P4SMA43CA-E3/61; Applications: General Purpose; ComponentLink1Description: Datasheet; ComponentLink1URL: http://www.vishay.com/docs/88367/p4sma.pdf; ComponentLink2Description: DigiKey Link; ComponentLink2URL: http://digikey.com/product-detail/en/vishay-semiconductor-diodes-division/P4SMA43CA-E3-61/P4SMA43CA-E3-61GICT-ND/5639056; LastUpdated: 9/2/2020 1:27:50 AM; Lifecycle Status: Active; Minimum Order: 1; Mounting Type: Surface Mount; Operating Temperature: -65°C ~ 150°C (TJ); Package / Case: DO-214AC, SMA; Packaging: TapeAndReel; PartId: 7284; Part Status: Active; Price: 0.11; Series: P4SMA, TransZorb®; Supplier 1: DigiKey; Supplier Part Number 1: P4SMA43CA-E3/61GICT-ND; Supplier Device Package: DO-214AC (SMA); Voltage - Clamping (Max) @ Ipp: 59.3V; Voltage - Reverse Standoff (Typ): 36.8V
footprint DO214AC SMA
pins: 1, 2

## P4SMA47A
designator D?
TVS DIODE 40.2V 64.8V DO214AC; Manufacturer: Bourns Inc.; Current - Peak Pulse (10/1000µs): 6.3A; Power Line Protection: No; Power - Peak Pulse: 400W; Type: Zener; Unidirectional Channels: 1; Voltage - Breakdown (Min): 44.7V; Part Number: P4SMA47A; Applications: General Purpose; ComponentLink1Description: Datasheet; ComponentLink1URL: https://www.bourns.com/docs/Product-Datasheets/P4SMA.pdf; ComponentLink2Description: DigiKey Link; ComponentLink2URL: http://digikey.com/product-detail/en/bourns-inc/P4SMA47A/P4SMA47ABBCT-ND/6708220; LastUpdated: 9/2/2020 1:20:18 AM; Lifecycle Status: Active; Minimum Order: 1; Mounting Type: Surface Mount; Operating Temperature: -55°C ~ 150°C (TJ); Package / Case: DO-214AC, SMA; Packaging: TapeAndReel; PartId: 6145; Part Status: Active; Price: 0.09; Series: -; Supplier 1: DigiKey; Supplier Part Number 1: P4SMA47ABBCT-ND; Supplier Device Package: DO-214AC (SMA); Voltage - Clamping (Max) @ Ipp: 64.8V; Voltage - Reverse Standoff (Typ): 40.2V
footprint DO214AC SMA
pins: 1, 2

## P4SMA47A-E3/61
designator D?
TVS DIODE 40.2V 64.8V DO214AC; Manufacturer: Vishay Semiconductor Diodes Division; Current - Peak Pulse (10/1000µs): 6.2A; Power Line Protection: No; Power - Peak Pulse: 400W; Type: Zener; Unidirectional Channels: 1; Voltage - Breakdown (Min): 44.7V; Part Number: P4SMA47A-E3/61; Applications: General Purpose; ComponentLink1Description: Datasheet; ComponentLink1URL: http://www.vishay.com/docs/88367/p4sma.pdf; ComponentLink2Description: DigiKey Link; ComponentLink2URL: http://digikey.com/product-detail/en/vishay-semiconductor-diodes-division/P4SMA47A-E3-61/P4SMA47A-E3-61GICT-ND/5639058; LastUpdated: 9/2/2020 1:20:18 AM; Lifecycle Status: Active; Minimum Order: 1; Mounting Type: Surface Mount; Operating Temperature: -65°C ~ 150°C (TJ); Package / Case: DO-214AC, SMA; Packaging: TapeAndReel; PartId: 6203; Part Status: Active; Price: 0.10; Series: P4SMA, TransZorb®; Supplier 1: DigiKey; Supplier Part Number 1: P4SMA47A-E3/61GICT-ND; Supplier Device Package: DO-214AC (SMA); Voltage - Clamping (Max) @ Ipp: 64.8V; Voltage - Reverse Standoff (Typ): 40.2V
footprint DO214AC SMA
pins: 1, 2

## P4SMA47CA
designator D?
TVS DIODE 40.2V 64.8V DO214AC; Manufacturer: Littelfuse Inc.; Bidirectional Channels: 1; Current - Peak Pulse (10/1000µs): 6.3A; Power Line Protection: No; Power - Peak Pulse: 400W; Type: Zener; Voltage - Breakdown (Min): 44.7V; Part Number: P4SMA47CA; Applications: General Purpose; ComponentLink1Description: Datasheet; ComponentLink1URL: https://www.littelfuse.com/~/media/electronics/datasheets/tvs_diodes/littelfuse_tvs_diode_p4sma_datasheet.pdf.pdf; ComponentLink2Description: DigiKey Link; ComponentLink2URL: http://digikey.com/product-detail/en/littelfuse-inc/P4SMA47CA/P4SMA47CACT-ND/9841927; LastUpdated: 9/2/2020 1:27:53 AM; Lifecycle Status: Active; Minimum Order: 1; Mounting Type: Surface Mount; Operating Temperature: -65°C ~ 150°C (TJ); Package / Case: DO-214AC, SMA; Packaging: TapeAndReel; PartId: 7570; Part Status: Active; Price: 0.10; Series: P4SMA; Supplier 1: DigiKey; Supplier Part Number 1: P4SMA47CACT-ND; Supplier Device Package: DO-214AC (SMA); Voltage - Clamping (Max) @ Ipp: 64.8V; Voltage - Reverse Standoff (Typ): 40.2V
footprint DO214AC SMA
pins: 1, 2

## P4SMA47CA-E3/61
designator D?
TVS DIODE 40.2V 64.8V DO214AC; Manufacturer: Vishay Semiconductor Diodes Division; Bidirectional Channels: 1; Current - Peak Pulse (10/1000µs): 6.2A; Power Line Protection: No; Power - Peak Pulse: 400W; Type: Zener; Voltage - Breakdown (Min): 44.7V; Part Number: P4SMA47CA-E3/61; Applications: General Purpose; ComponentLink1Description: Datasheet; ComponentLink1URL: http://www.vishay.com/docs/88367/p4sma.pdf; ComponentLink2Description: DigiKey Link; ComponentLink2URL: http://digikey.com/product-detail/en/vishay-semiconductor-diodes-division/P4SMA47CA-E3-61/P4SMA47CA-E3-61GICT-ND/5639059; LastUpdated: 9/2/2020 1:27:50 AM; Lifecycle Status: Active; Minimum Order: 1; Mounting Type: Surface Mount; Operating Temperature: -65°C ~ 150°C (TJ); Package / Case: DO-214AC, SMA; Packaging: TapeAndReel; PartId: 7287; Part Status: Active; Price: 0.11; Series: P4SMA, TransZorb®; Supplier 1: DigiKey; Supplier Part Number 1: P4SMA47CA-E3/61GICT-ND; Supplier Device Package: DO-214AC (SMA); Voltage - Clamping (Max) @ Ipp: 64.8V; Voltage - Reverse Standoff (Typ): 40.2V
footprint DO214AC SMA
pins: 1, 2

## P4SMA51A R3G
designator D?
TVS DIODE 43.6V 70.1V DO214AC; Manufacturer: Taiwan Semiconductor Corporation; Current - Peak Pulse (10/1000µs): 6A; Power Line Protection: No; Power - Peak Pulse: 400W; Type: Zener; Unidirectional Channels: 1; Voltage - Breakdown (Min): 48.5V; Part Number: P4SMA51A R3G; Applications: General Purpose; ComponentLink1Description: Datasheet; ComponentLink1URL: https://www.taiwansemi.com/products/datasheet/P4SMA%20SERIES_Q1705.pdf; ComponentLink2Description: DigiKey Link; ComponentLink2URL: http://digikey.com/product-detail/en/taiwan-semiconductor-corporation/P4SMA51A-R3G/P4SMA51AR3GCT-ND/7644320; LastUpdated: 9/2/2020 1:20:12 AM; Lifecycle Status: Active; Minimum Order: 1; Mounting Type: Surface Mount; Operating Temperature: -55°C ~ 150°C (TJ); Package / Case: DO-214AC, SMA; Packaging: TapeAndReel; PartId: 5552; Part Status: Active; Price: 0.11; Series: P4SMA; Supplier 1: DigiKey; Supplier Part Number 1: P4SMA51AR3GCT-ND; Supplier Device Package: DO-214AC (SMA); Voltage - Clamping (Max) @ Ipp: 70.1V; Voltage - Reverse Standoff (Typ): 43.6V
footprint DO214AC SMA
pins: 1, 2

## P4SMA51CA-E3/61
designator D?
TVS DIODE 43.6V 70.1V DO214AC; Manufacturer: Vishay Semiconductor Diodes Division; Bidirectional Channels: 1; Current - Peak Pulse (10/1000µs): 5.7A; Power Line Protection: No; Power - Peak Pulse: 400W; Type: Zener; Voltage - Breakdown (Min): 48.5V; Part Number: P4SMA51CA-E3/61; Applications: General Purpose; ComponentLink1Description: Datasheet; ComponentLink1URL: http://www.vishay.com/docs/88367/p4sma.pdf; ComponentLink2Description: DigiKey Link; ComponentLink2URL: http://digikey.com/product-detail/en/vishay-semiconductor-diodes-division/P4SMA51CA-E3-61/P4SMA51CA-E3-61GICT-ND/5639063; LastUpdated: 9/2/2020 1:27:53 AM; Lifecycle Status: Active; Minimum Order: 1; Mounting Type: Surface Mount; Operating Temperature: -65°C ~ 150°C (TJ); Package / Case: DO-214AC, SMA; Packaging: TapeAndReel; PartId: 7589; Part Status: Active; Price: 0.11; Series: P4SMA, TransZorb®; Supplier 1: DigiKey; Supplier Part Number 1: P4SMA51CA-E3/61GICT-ND; Supplier Device Package: DO-214AC (SMA); Voltage - Clamping (Max) @ Ipp: 70.1V; Voltage - Reverse Standoff (Typ): 43.6V
footprint DO214AC SMA
pins: 1, 2

## P4SMA56A
designator D?
TVS DIODE 47.8V 77V DO214AC; Manufacturer: Bourns Inc.; Current - Peak Pulse (10/1000µs): 5.3A; Power Line Protection: No; Power - Peak Pulse: 400W; Type: Zener; Unidirectional Channels: 1; Voltage - Breakdown (Min): 53.2V; Part Number: P4SMA56A; Applications: General Purpose; ComponentLink1Description: Datasheet; ComponentLink1URL: https://www.bourns.com/docs/Product-Datasheets/P4SMA.pdf; ComponentLink2Description: DigiKey Link; ComponentLink2URL: http://digikey.com/product-detail/en/bourns-inc/P4SMA56A/P4SMA56ABBCT-ND/6708222; LastUpdated: 9/2/2020 1:20:14 AM; Lifecycle Status: Active; Minimum Order: 1; Mounting Type: Surface Mount; Operating Temperature: -55°C ~ 150°C (TJ); Package / Case: DO-214AC, SMA; Packaging: TapeAndReel; PartId: 5665; Part Status: Active; Price: 0.09; Series: -; Supplier 1: DigiKey; Supplier Part Number 1: P4SMA56ABBCT-ND; Supplier Device Package: DO-214AC (SMA); Voltage - Clamping (Max) @ Ipp: 77V; Voltage - Reverse Standoff (Typ): 47.8V
footprint DO214AC SMA
pins: 1, 2

## P4SMA56A-E3/61
designator D?
TVS DIODE 47.8V 77V DO214AC; Manufacturer: Vishay Semiconductor Diodes Division; Current - Peak Pulse (10/1000µs): 5.2A; Power Line Protection: No; Power - Peak Pulse: 400W; Type: Zener; Unidirectional Channels: 1; Voltage - Breakdown (Min): 53.2V; Part Number: P4SMA56A-E3/61; Applications: General Purpose; ComponentLink1Description: Datasheet; ComponentLink1URL: http://www.vishay.com/docs/88367/p4sma.pdf; ComponentLink2Description: DigiKey Link; ComponentLink2URL: http://digikey.com/product-detail/en/vishay-semiconductor-diodes-division/P4SMA56A-E3-61/P4SMA56A-E3-61GICT-ND/5639065; LastUpdated: 9/2/2020 1:20:16 AM; Lifecycle Status: Active; Minimum Order: 1; Mounting Type: Surface Mount; Operating Temperature: -65°C ~ 150°C (TJ); Package / Case: DO-214AC, SMA; Packaging: TapeAndReel; PartId: 5936; Part Status: Active; Price: 0.10; Series: P4SMA, TransZorb®; Supplier 1: DigiKey; Supplier Part Number 1: P4SMA56A-E3/61GICT-ND; Supplier Device Package: DO-214AC (SMA); Voltage - Clamping (Max) @ Ipp: 77V; Voltage - Reverse Standoff (Typ): 47.8V
footprint DO214AC SMA
pins: 1, 2

## P4SMA56CA R3G
designator D?
TVS DIODE 47.8V 77V DO214AC; Manufacturer: Taiwan Semiconductor Corporation; Bidirectional Channels: 1; Current - Peak Pulse (10/1000µs): 5.4A; Power Line Protection: No; Power - Peak Pulse: 400W; Type: Zener; Voltage - Breakdown (Min): 53.2V; Part Number: P4SMA56CA R3G; Applications: General Purpose; ComponentLink1Description: Datasheet; ComponentLink1URL: https://www.taiwansemi.com/products/datasheet/P4SMA%20SERIES_Q1705.pdf; ComponentLink2Description: DigiKey Link; ComponentLink2URL: http://digikey.com/product-detail/en/taiwan-semiconductor-corporation/P4SMA56CA-R3G/P4SMA56CAR3GCT-ND/7357940; LastUpdated: 9/2/2020 1:27:53 AM; Lifecycle Status: Active; Minimum Order: 1; Mounting Type: Surface Mount; Operating Temperature: -55°C ~ 150°C (TJ); Package / Case: DO-214AC, SMA; Packaging: TapeAndReel; PartId: 7565; Part Status: Active; Price: 0.11; Series: P4SMA; Supplier 1: DigiKey; Supplier Part Number 1: P4SMA56CAR3GCT-ND; Supplier Device Package: DO-214AC (SMA); Voltage - Clamping (Max) @ Ipp: 77V; Voltage - Reverse Standoff (Typ): 47.8V
footprint DO214AC SMA
pins: 1, 2

## P4SMA62A
designator D?
TVS DIODE 53V 85V DO214AC; Manufacturer: Bourns Inc.; Current - Peak Pulse (10/1000µs): 4.8A; Power Line Protection: No; Power - Peak Pulse: 400W; Type: Zener; Unidirectional Channels: 1; Voltage - Breakdown (Min): 58.9V; Part Number: P4SMA62A; Applications: General Purpose; ComponentLink1Description: Datasheet; ComponentLink1URL: https://www.bourns.com/docs/Product-Datasheets/P4SMA.pdf; ComponentLink2Description: DigiKey Link; ComponentLink2URL: http://digikey.com/product-detail/en/bourns-inc/P4SMA62A/P4SMA62ABBCT-ND/6708224; LastUpdated: 9/2/2020 1:20:14 AM; Lifecycle Status: Active; Minimum Order: 1; Mounting Type: Surface Mount; Operating Temperature: -55°C ~ 150°C (TJ); Package / Case: DO-214AC, SMA; Packaging: TapeAndReel; PartId: 5664; Part Status: Active; Price: 0.09; Series: -; Supplier 1: DigiKey; Supplier Part Number 1: P4SMA62ABBCT-ND; Supplier Device Package: DO-214AC (SMA); Voltage - Clamping (Max) @ Ipp: 85V; Voltage - Reverse Standoff (Typ): 53V
footprint DO214AC SMA
pins: 1, 2

## P4SMA62A-E3/61
designator D?
TVS DIODE 53V 85V DO214AC; Manufacturer: Vishay Semiconductor Diodes Division; Current - Peak Pulse (10/1000µs): 4.7A; Power Line Protection: No; Power - Peak Pulse: 400W; Type: Zener; Unidirectional Channels: 1; Voltage - Breakdown (Min): 58.9V; Part Number: P4SMA62A-E3/61; Applications: General Purpose; ComponentLink1Description: Datasheet; ComponentLink1URL: http://www.vishay.com/docs/88367/p4sma.pdf; ComponentLink2Description: DigiKey Link; ComponentLink2URL: http://digikey.com/product-detail/en/vishay-semiconductor-diodes-division/P4SMA62A-E3-61/P4SMA62A-E3-61GICT-ND/5639068; LastUpdated: 9/2/2020 1:20:14 AM; Lifecycle Status: Active; Minimum Order: 1; Mounting Type: Surface Mount; Operating Temperature: -65°C ~ 150°C (TJ); Package / Case: DO-214AC, SMA; Packaging: TapeAndReel; PartId: 5684; Part Status: Active; Price: 0.10; Series: P4SMA, TransZorb®; Supplier 1: DigiKey; Supplier Part Number 1: P4SMA62A-E3/61GICT-ND; Supplier Device Package: DO-214AC (SMA); Voltage - Clamping (Max) @ Ipp: 85V; Voltage - Reverse Standoff (Typ): 53V
footprint DO214AC SMA
pins: 1, 2

## P4SMA62CA-E3/61
designator D?
TVS DIODE 53V 85V DO214AC; Manufacturer: Vishay Semiconductor Diodes Division; Bidirectional Channels: 1; Current - Peak Pulse (10/1000µs): 4.7A; Power Line Protection: No; Power - Peak Pulse: 400W; Type: Zener; Voltage - Breakdown (Min): 58.9V; Part Number: P4SMA62CA-E3/61; Applications: General Purpose; ComponentLink1Description: Datasheet; ComponentLink1URL: http://www.vishay.com/docs/88367/p4sma.pdf; ComponentLink2Description: DigiKey Link; ComponentLink2URL: http://digikey.com/product-detail/en/vishay-semiconductor-diodes-division/P4SMA62CA-E3-61/P4SMA62CA-E3-61GICT-ND/5639069; LastUpdated: 9/2/2020 1:27:50 AM; Lifecycle Status: Active; Minimum Order: 1; Mounting Type: Surface Mount; Operating Temperature: -65°C ~ 150°C (TJ); Package / Case: DO-214AC, SMA; Packaging: TapeAndReel; PartId: 7283; Part Status: Active; Price: 0.11; Series: P4SMA, TransZorb®; Supplier 1: DigiKey; Supplier Part Number 1: P4SMA62CA-E3/61GICT-ND; Supplier Device Package: DO-214AC (SMA); Voltage - Clamping (Max) @ Ipp: 85V; Voltage - Reverse Standoff (Typ): 53V
footprint DO214AC SMA
pins: 1, 2

## P4SMA68A-E3/61
designator D?
TVS DIODE 58.1V 92V DO214AC; Manufacturer: Vishay Semiconductor Diodes Division; Current - Peak Pulse (10/1000µs): 4.3A; Power Line Protection: No; Power - Peak Pulse: 400W; Type: Zener; Unidirectional Channels: 1; Voltage - Breakdown (Min): 64.6V; Part Number: P4SMA68A-E3/61; Applications: General Purpose; ComponentLink1Description: Datasheet; ComponentLink1URL: http://www.vishay.com/docs/88367/p4sma.pdf; ComponentLink2Description: DigiKey Link; ComponentLink2URL: http://digikey.com/product-detail/en/vishay-semiconductor-diodes-division/P4SMA68A-E3-61/P4SMA68A-E3-61GICT-ND/5639070; LastUpdated: 9/2/2020 1:20:18 AM; Lifecycle Status: Active; Minimum Order: 1; Mounting Type: Surface Mount; Operating Temperature: -65°C ~ 150°C (TJ); Package / Case: DO-214AC, SMA; Packaging: TapeAndReel; PartId: 6194; Part Status: Active; Price: 0.10; Series: P4SMA, TransZorb®; Supplier 1: DigiKey; Supplier Part Number 1: P4SMA68A-E3/61GICT-ND; Supplier Device Package: DO-214AC (SMA); Voltage - Clamping (Max) @ Ipp: 92V; Voltage - Reverse Standoff (Typ): 58.1V
footprint DO214AC SMA
pins: 1, 2

## P4SMA68CA-E3/61
designator D?
TVS DIODE 58.1V 92V DO214AC; Manufacturer: Vishay Semiconductor Diodes Division; Bidirectional Channels: 1; Current - Peak Pulse (10/1000µs): 4.3A; Power Line Protection: No; Power - Peak Pulse: 400W; Type: Zener; Voltage - Breakdown (Min): 64.6V; Part Number: P4SMA68CA-E3/61; Applications: General Purpose; ComponentLink1Description: Datasheet; ComponentLink1URL: http://www.vishay.com/docs/88367/p4sma.pdf; ComponentLink2Description: DigiKey Link; ComponentLink2URL: http://digikey.com/product-detail/en/vishay-semiconductor-diodes-division/P4SMA68CA-E3-61/P4SMA68CA-E3-61GICT-ND/5639071; LastUpdated: 9/2/2020 1:27:50 AM; Lifecycle Status: Active; Minimum Order: 1; Mounting Type: Surface Mount; Operating Temperature: -65°C ~ 150°C (TJ); Package / Case: DO-214AC, SMA; Packaging: TapeAndReel; PartId: 7285; Part Status: Active; Price: 0.11; Series: P4SMA, TransZorb®; Supplier 1: DigiKey; Supplier Part Number 1: P4SMA68CA-E3/61GICT-ND; Supplier Device Package: DO-214AC (SMA); Voltage - Clamping (Max) @ Ipp: 92V; Voltage - Reverse Standoff (Typ): 58.1V
footprint DO214AC SMA
pins: 1, 2

## P4SMA75CA
designator D?
TVS DIODE 64.1V 103V DO214AC; Manufacturer: Littelfuse Inc.; Bidirectional Channels: 1; Current - Peak Pulse (10/1000µs): 4A; Power Line Protection: No; Power - Peak Pulse: 400W; Type: Zener; Voltage - Breakdown (Min): 71.3V; Part Number: P4SMA75CA; Applications: General Purpose; ComponentLink1Description: Datasheet; ComponentLink1URL: https://www.littelfuse.com/~/media/electronics/datasheets/tvs_diodes/littelfuse_tvs_diode_p4sma_datasheet.pdf.pdf; ComponentLink2Description: DigiKey Link; ComponentLink2URL: http://digikey.com/product-detail/en/littelfuse-inc/P4SMA75CA/P4SMA75CACT-ND/2770354; LastUpdated: 9/2/2020 1:27:50 AM; Lifecycle Status: Active; Minimum Order: 1; Mounting Type: Surface Mount; Operating Temperature: -65°C ~ 150°C (TJ); Package / Case: DO-214AC, SMA; Packaging: TapeAndReel; PartId: 7312; Part Status: Active; Price: 0.20; Series: P4SMA; Supplier 1: DigiKey; Supplier Part Number 1: P4SMA75CACT-ND; Supplier Device Package: DO-214AC (SMA); Voltage - Clamping (Max) @ Ipp: 103V; Voltage - Reverse Standoff (Typ): 64.1V
footprint DO214AC SMA
pins: 1, 2